# Altium footprint library MLACHP_P.PCBLIB: 129 footprints (part 4 of 9)
Each footprint in its own frame and in the unit in brackets; x right, y up, seen from the top. Pads: shape width x height; smd on the part's side, far side on the other; paste and mask are expansions set on the pad; w line width, h text height; cw(c..) or ccw(c..) is an arc to the next point about the centre after c.
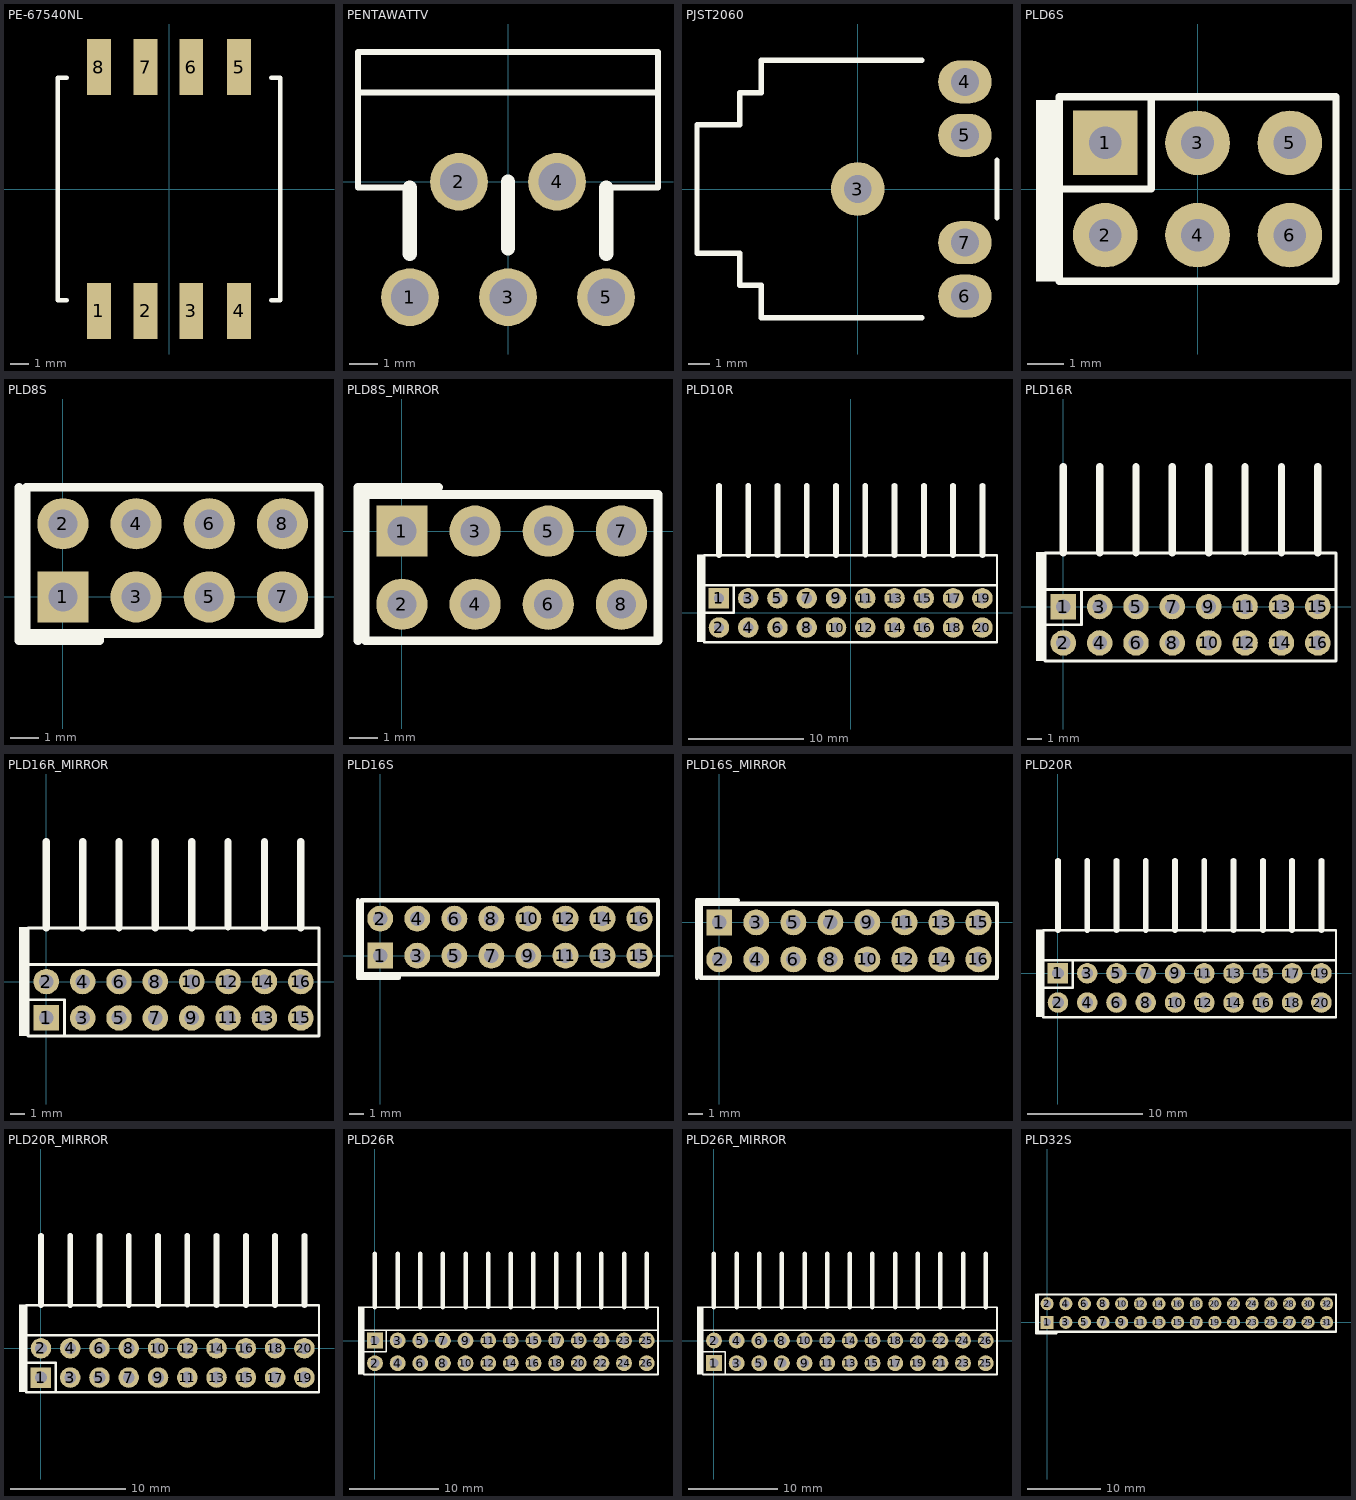
[diagram p3: the footprints below, top view; thin cyan lines are the x and y axes]

## PE-67540NL [mm]
pads (8):
  rect 1.3x3.05 smd: 1(-3.81,-6.625) 2(-1.27,-6.625) 3(1.21,-6.625) 4(3.81,-6.625) 5(3.81,6.625) 6(1.21,6.625) 7(-1.27,6.625) 8(-3.81,6.625)
TopOverlay:
  lines w0.254: -5.55,-6.05 -6.05,-6.05 -6.05,6.05 -5.55,6.05 ; 5.55,-6.05 6.05,-6.05 6.05,6.05 5.55,6.05
3D body: height 1, standoff 0, extent -4.21,6.025 -3.41,7.525
3D body: height 1, standoff 0, extent -1.67,6.025 -0.87,7.525
3D body: height 1, standoff 0, extent 0.81,6.025 1.61,7.525
3D body: height 1, standoff 0, extent 3.41,6.025 4.21,7.525
3D body: height 1, standoff 0, extent 3.41,-7.525 4.21,-6.025
3D body: height 1, standoff 0, extent 0.81,-7.525 1.61,-6.025
3D body: height 1, standoff 0, extent -1.67,-7.525 -0.87,-6.025
3D body: height 1, standoff 0, extent -4.21,-7.525 -3.41,-6.025
3D body: height 8.64, standoff 0, extent -6.05,-6.05 6.05,6.05

## PENTAWATTV [mm]
pads (5):
  round 2 hole 1.3: 1(-3.4,-4) 2(-1.7,0) 3(0,-4) 4(1.7,0) 5(3.4,-4)
TopOverlay:
  lines w0.2: -5.2,3.1 5.2,3.1 ; -3.4,-0.2 -5.2,-0.2 -5.2,4.5 5.2,4.5 5.2,-0.2 3.4,-0.2
  lines w0.5: -3.4,-2.5 -3.4,-0.2 ; 0,-2.3 0,0 ; 3.4,-2.5 3.4,-0.2
3D body: height 7, standoff 4, extent -3.9,0.1 -2.904,1.098
3D body: height 2.5, standoff 0, extent -3.9,-4.5 -2.904,-3.502
3D body: height 14.35, standoff 5.2, extent -5.2,-0.3 5.2,4.5
3D body: height 20.65, standoff 14.35, extent -5.2,3.1 5.2,4.5
3D body: height 4.47, standoff 1.65, extent -3.896,-4.45 -2.9,1.06
3D body: height 2.5, standoff 0, extent -2.198,-0.5 -1.202,0.498
3D body: height 7, standoff 4, extent -2.2,0.1 -1.204,1.098
3D body: height 4.17, standoff 1.95, extent -2.2,-0.511 -1.204,1.111
3D body: height 4.47, standoff 1.65, extent -0.496,-4.45 0.5,1.06
3D body: height 2.5, standoff 0, extent -0.5,-4.5 0.496,-3.502
3D body: height 7, standoff 4, extent -0.5,0.1 0.496,1.098
3D body: height 4.47, standoff 1.65, extent 2.904,-4.45 3.9,1.06
3D body: height 2.5, standoff 0, extent 2.9,-4.5 3.896,-3.502
3D body: height 7, standoff 4, extent 2.9,0.1 3.896,1.098
3D body: height 4.17, standoff 1.95, extent 1.2,-0.511 2.196,1.111
3D body: height 7, standoff 4, extent 1.2,0.1 2.196,1.098
3D body: height 2.5, standoff 0, extent 1.202,-0.5 2.198,0.498

## PJST2060 [mm]
pads (5):
  round 2.5 hole 1.3: 3(0,0)
  oval 2.5x2 hole 1.3: 4(5,5) 5(5,2.5) 6(5,-5) 7(5,-2.5)
TopOverlay:
  lines w0.254: 3,-6 -4.5,-6 -4.5,-4.5 -5.5,-4.5 -5.5,-3 -7.5,-3 -7.5,3 -5.5,3 -5.5,4.5 -4.5,4.5 -4.5,6 3,6 ; 6.5,-1.35 6.5,1.35
3D body: height 6.5, standoff -2, extent -7.5,-6 6.5,6

## PLD6S [mil]
pads (6):
  rect 70x70 hole 35.43: 1(-100,50)
  round 70 hole 35.43: 2(-100,-50) 3(0,50) 4(0,-50) 5(100,50) 6(100,-50)
TopOverlay:
  rectangle: -175,-100 -150,96.46
  lines w8: -150,0 -50,0 -50,95 ; -150,-100 150,-100 150,100 -150,100 -150,-100
3D body: height 100, standoff 0, extent -150,-100 150,100
3D body: height 336.22, standoff 0, extent 87.4,37.4 112.6,62.6
3D body: height 336.22, standoff 0, extent -12.6,37.4 12.6,62.6
3D body: height 336.22, standoff 0, extent -112.6,37.4 -87.4,62.6
3D body: height 336.22, standoff 0, extent -112.6,-62.6 -87.4,-37.4
3D body: height 336.22, standoff 0, extent -12.6,-62.6 12.6,-37.4
3D body: height 336.22, standoff 0, extent 87.4,-62.6 112.6,-37.4

## PLD8S [mil]
pads (8):
  rect 70x70 hole 39.37: 1(0,0)
  round 70 hole 39.37: 2(0,100) 3(100,0) 4(100,100) 5(200,0) 6(200,100) 7(300,0) 8(300,100)
TopOverlay:
  lines w12: -60,150 -60,-60 50,-60 50,-50 ; -50,-50 350,-50 350,150 -50,150 -50,-50
3D body: height 455, standoff -120, extent -14,86 14,114
3D body: height 455, standoff -120, extent 86,86 114,114
3D body: height 455, standoff -120, extent 186,86 214,114
3D body: height 455, standoff -120, extent 286,86 314,114
3D body: height 455, standoff -120, extent 286,-14 314,14
3D body: height 455, standoff -120, extent 186,-14 214,14
3D body: height 455, standoff -120, extent 86,-14 114,14
3D body: height 455, standoff -120, extent -14,-14 14,14
3D body: height 100, standoff 0, extent -50,-50 350,150

## PLD8S_MIRROR [mil]
pads (8):
  rect 70x70 hole 39.37: 1(0,0)
  round 70 hole 39.37: 2(0,-100) 3(100,0) 4(100,-100) 5(200,0) 6(200,-100) 7(300,0) 8(300,-100)
TopOverlay:
  lines w12: -60,-150 -60,60 50,60 ; -50,-150 -50,50 350,50 350,-150 -50,-150
3D body: height 100, standoff 0, extent -50,-150 350,50
3D body: height 455, standoff -120, extent -14,-114 14,-86
3D body: height 455, standoff -120, extent 86,-114 114,-86
3D body: height 455, standoff -120, extent 186,-114 214,-86
3D body: height 455, standoff -120, extent 286,-114 314,-86
3D body: height 455, standoff -120, extent 286,-14 314,14
3D body: height 455, standoff -120, extent 186,-14 214,14
3D body: height 455, standoff -120, extent 86,-14 114,14
3D body: height 455, standoff -120, extent -14,-14 14,14

## PLD10R [mil]
pads (20):
  rect 70x70 hole 35.43: 1(-450,50)
  round 70 hole 35.43: 2(-450,-50) 3(-350,50) 4(-350,-50) 5(-250,50) 6(-250,-50) 7(-150,50) 8(-150,-50) 9(-50,50) 10(-50,-50) 11(50,50) 12(50,-50) 13(150,50) 14(150,-50) 15(250,50) 16(250,-50) 17(350,50) 18(350,-50) 19(450,50) 20(450,-50)
TopOverlay:
  rectangle: -525,-100 -500,200
  lines w8: -501.18,197.24 500,197.24 500,97.24 500,-100 -500,-100 -500,100 ; -500,0 -400,0 -400,95 ; -500,197.24 -500,95 500,95
  lines w20: -450,197.24 -450,434.25 ; -350,197.24 -350,434.25 ; -250,197.24 -250,434.25 ; -150,197.24 -150,434.25 ; -50,197.24 -50,434.25 ; 50,200 50,434.25 ; 150,197.24 150,434.25 ; 250,197.24 250,434.25 ; 350,197.24 350,434.25 ; 450,197.24 450,434.25
3D body: height 62.6, standoff 37.4, extent 437.4,37.4 462.6,434.25
3D body: height 62.6, standoff -118.11, extent 437.4,37.4 462.6,62.6
3D body: height 62.6, standoff 37.4, extent 337.4,37.4 362.6,434.25
3D body: height 62.6, standoff -118.11, extent 337.4,37.4 362.6,62.6
3D body: height 62.6, standoff 37.4, extent 237.4,37.4 262.6,434.25
3D body: height 62.6, standoff -118.11, extent 237.4,37.4 262.6,62.6
3D body: height 62.6, standoff 37.4, extent 137.4,37.4 162.6,434.25
3D body: height 62.6, standoff -118.11, extent 137.4,37.4 162.6,62.6
3D body: height 62.6, standoff 37.4, extent 37.4,37.4 62.6,434.25
3D body: height 62.6, standoff -118.11, extent 37.4,37.4 62.6,62.6
3D body: height 62.6, standoff 37.4, extent -62.6,37.4 -37.4,434.25
3D body: height 62.6, standoff -118.11, extent -62.6,37.4 -37.4,62.6
3D body: height 62.6, standoff 37.4, extent -162.6,37.4 -137.4,434.25
3D body: height 62.6, standoff -118.11, extent -162.6,37.4 -137.4,62.6
3D body: height 62.6, standoff 37.4, extent -262.6,37.4 -237.4,434.25
3D body: height 62.6, standoff -118.11, extent -262.6,37.4 -237.4,62.6
3D body: height 62.6, standoff 37.4, extent -362.6,37.4 -337.4,434.25
3D body: height 62.6, standoff -118.11, extent -362.6,37.4 -337.4,62.6
3D body: height 62.6, standoff -118.11, extent -462.6,37.4 -437.4,62.6
3D body: height 200, standoff 0, extent -500,97.24 500,197.24
3D body: height 62.6, standoff 37.4, extent -462.6,37.4 -437.4,434.25
3D body: height 162.6, standoff -118.11, extent -462.6,-62.6 -437.4,-37.4
3D body: height 162.6, standoff 137.4, extent -462.6,-62.6 -437.4,434.25
3D body: height 162.6, standoff 137.4, extent -362.6,-62.6 -337.4,434.25
3D body: height 162.6, standoff -118.11, extent -362.6,-62.6 -337.4,-37.4
3D body: height 162.6, standoff 137.4, extent -262.6,-62.6 -237.4,434.25
3D body: height 162.6, standoff -118.11, extent -262.6,-62.6 -237.4,-37.4
3D body: height 162.6, standoff 137.4, extent -162.6,-62.6 -137.4,434.25
3D body: height 162.6, standoff -118.11, extent -162.6,-62.6 -137.4,-37.4
3D body: height 162.6, standoff 137.4, extent -62.6,-62.6 -37.4,434.25
3D body: height 162.6, standoff -118.11, extent -62.6,-62.6 -37.4,-37.4
3D body: height 162.6, standoff 137.4, extent -62.6,-62.6 -37.4,434.25
3D body: height 162.6, standoff -118.11, extent -62.6,-62.6 -37.4,-37.4
3D body: height 162.6, standoff 137.4, extent 37.4,-62.6 62.6,434.25
3D body: height 162.6, standoff -118.11, extent 37.4,-62.6 62.6,-37.4
3D body: height 162.6, standoff 137.4, extent 137.4,-62.6 162.6,434.25
3D body: height 162.6, standoff -118.11, extent 137.4,-62.6 162.6,-37.4
3D body: height 162.6, standoff 137.4, extent 237.4,-62.6 262.6,434.25
3D body: height 162.6, standoff -118.11, extent 237.4,-62.6 262.6,-37.4
3D body: height 162.6, standoff 137.4, extent 437.4,-62.6 462.6,434.25
3D body: height 162.6, standoff -118.11, extent 437.4,-62.6 462.6,-37.4
3D body: height 162.6, standoff 137.4, extent 337.4,-62.6 362.6,434.25
3D body: height 162.6, standoff -118.11, extent 337.4,-62.6 362.6,-37.4

## PLD16R [mil]
pads (16):
  rect 70x70 hole 40: 1(0,0)
  round 70 hole 40: 2(0,-100) 3(100,0) 4(100,-100) 5(200,0) 6(200,-100) 7(300,0) 8(300,-100) 9(400,0) 10(400,-100) 11(500,0) 12(500,-100) 13(600,0) 14(600,-100) 15(700,0) 16(700,-100)
TopOverlay:
  rectangle: -75,-150 -50,150
  lines w8: -50,-50 50,-50 50,47.24 ; -50,50 -50,-150 750,-150 750,147.24 -50,147.24 -50,47.24 750,47.24
  lines w20: 0,147.24 0,384.25 ; 100,147.24 100,384.25 ; 200,147.24 200,384.25 ; 300,147.24 300,384.25 ; 400,147.24 400,384.25 ; 500,150 500,384.25 ; 600,147.24 600,384.25 ; 700,147.24 700,384.25
3D body: height 162.6, standoff -118.11, extent 687.4,-112.6 712.6,-87.4
3D body: height 162.6, standoff 137.4, extent 687.4,-112.6 712.6,384.25
3D body: height 162.6, standoff -118.11, extent 587.4,-112.6 612.6,-87.4
3D body: height 162.6, standoff 137.4, extent 587.4,-112.6 612.6,384.25
3D body: height 162.6, standoff -118.11, extent 487.4,-112.6 512.6,-87.4
3D body: height 162.6, standoff 137.4, extent 487.4,-112.6 512.6,384.25
3D body: height 162.6, standoff -118.11, extent 387.4,-112.6 412.6,-87.4
3D body: height 162.6, standoff 137.4, extent 387.4,-112.6 412.6,384.25
3D body: height 162.6, standoff -118.11, extent 387.4,-112.6 412.6,-87.4
3D body: height 162.6, standoff 137.4, extent 387.4,-112.6 412.6,384.25
3D body: height 162.6, standoff -118.11, extent 287.4,-112.6 312.6,-87.4
3D body: height 162.6, standoff 137.4, extent 287.4,-112.6 312.6,384.25
3D body: height 162.6, standoff -118.11, extent 187.4,-112.6 212.6,-87.4
3D body: height 162.6, standoff 137.4, extent 187.4,-112.6 212.6,384.25
3D body: height 162.6, standoff -118.11, extent 87.4,-112.6 112.6,-87.4
3D body: height 162.6, standoff 137.4, extent 87.4,-112.6 112.6,384.25
3D body: height 162.6, standoff 137.4, extent -12.6,-112.6 12.6,384.25
3D body: height 162.6, standoff -118.11, extent -12.6,-112.6 12.6,-87.4
3D body: height 62.6, standoff 37.4, extent -12.6,-12.6 12.6,384.25
3D body: height 200, standoff 0, extent -50,47.24 750,147.24
3D body: height 62.6, standoff -118.11, extent -12.6,-12.6 12.6,12.6
3D body: height 62.6, standoff -118.11, extent 87.4,-12.6 112.6,12.6
3D body: height 62.6, standoff 37.4, extent 87.4,-12.6 112.6,384.25
3D body: height 62.6, standoff -118.11, extent 187.4,-12.6 212.6,12.6
3D body: height 62.6, standoff 37.4, extent 187.4,-12.6 212.6,384.25
3D body: height 62.6, standoff -118.11, extent 287.4,-12.6 312.6,12.6
3D body: height 62.6, standoff 37.4, extent 287.4,-12.6 312.6,384.25
3D body: height 62.6, standoff -118.11, extent 387.4,-12.6 412.6,12.6
3D body: height 62.6, standoff 37.4, extent 387.4,-12.6 412.6,384.25
3D body: height 62.6, standoff -118.11, extent 487.4,-12.6 512.6,12.6
3D body: height 62.6, standoff 37.4, extent 487.4,-12.6 512.6,384.25
3D body: height 62.6, standoff -118.11, extent 587.4,-12.6 612.6,12.6
3D body: height 62.6, standoff 37.4, extent 587.4,-12.6 612.6,384.25
3D body: height 62.6, standoff -118.11, extent 687.4,-12.6 712.6,12.6
3D body: height 62.6, standoff 37.4, extent 687.4,-12.6 712.6,384.25

## PLD16R_MIRROR [mil]
pads (16):
  rect 70x70 hole 40: 1(0,-100)
  round 70 hole 40: 2(0,0) 3(100,-100) 4(100,0) 5(200,-100) 6(200,0) 7(300,-100) 8(300,0) 9(400,-100) 10(400,0) 11(500,-100) 12(500,0) 13(600,-100) 14(600,0) 15(700,-100) 16(700,0)
TopOverlay:
  rectangle: -75,-150 -50,150
  lines w8: -50,-50 50,-50 50,-150 ; -50,50 -50,-150 750,-150 750,147.24 -50,147.24 -50,47.24 750,47.24
  lines w20: 0,147.24 0,384.25 ; 100,147.24 100,384.25 ; 200,147.24 200,384.25 ; 300,147.24 300,384.25 ; 400,147.24 400,384.25 ; 500,150 500,384.25 ; 600,147.24 600,384.25 ; 700,147.24 700,384.25
3D body: height 162.6, standoff -118.11, extent 687.4,-112.6 712.6,-87.4
3D body: height 162.6, standoff 137.4, extent 687.4,-112.6 712.6,384.25
3D body: height 162.6, standoff -118.11, extent 587.4,-112.6 612.6,-87.4
3D body: height 162.6, standoff 137.4, extent 587.4,-112.6 612.6,384.25
3D body: height 162.6, standoff -118.11, extent 487.4,-112.6 512.6,-87.4
3D body: height 162.6, standoff 137.4, extent 487.4,-112.6 512.6,384.25
3D body: height 162.6, standoff -118.11, extent 387.4,-112.6 412.6,-87.4
3D body: height 162.6, standoff 137.4, extent 387.4,-112.6 412.6,384.25
3D body: height 162.6, standoff -118.11, extent 387.4,-112.6 412.6,-87.4
3D body: height 162.6, standoff 137.4, extent 387.4,-112.6 412.6,384.25
3D body: height 162.6, standoff -118.11, extent 287.4,-112.6 312.6,-87.4
3D body: height 162.6, standoff 137.4, extent 287.4,-112.6 312.6,384.25
3D body: height 162.6, standoff -118.11, extent 187.4,-112.6 212.6,-87.4
3D body: height 162.6, standoff 137.4, extent 187.4,-112.6 212.6,384.25
3D body: height 162.6, standoff -118.11, extent 87.4,-112.6 112.6,-87.4
3D body: height 162.6, standoff 137.4, extent 87.4,-112.6 112.6,384.25
3D body: height 162.6, standoff 137.4, extent -12.6,-112.6 12.6,384.25
3D body: height 162.6, standoff -118.11, extent -12.6,-112.6 12.6,-87.4
3D body: height 62.6, standoff 37.4, extent -12.6,-12.6 12.6,384.25
3D body: height 200, standoff 0, extent -50,47.24 750,147.24
3D body: height 62.6, standoff -118.11, extent -12.6,-12.6 12.6,12.6
3D body: height 62.6, standoff -118.11, extent 87.4,-12.6 112.6,12.6
3D body: height 62.6, standoff 37.4, extent 87.4,-12.6 112.6,384.25
3D body: height 62.6, standoff -118.11, extent 187.4,-12.6 212.6,12.6
3D body: height 62.6, standoff 37.4, extent 187.4,-12.6 212.6,384.25
3D body: height 62.6, standoff -118.11, extent 287.4,-12.6 312.6,12.6
3D body: height 62.6, standoff 37.4, extent 287.4,-12.6 312.6,384.25
3D body: height 62.6, standoff -118.11, extent 387.4,-12.6 412.6,12.6
3D body: height 62.6, standoff 37.4, extent 387.4,-12.6 412.6,384.25
3D body: height 62.6, standoff -118.11, extent 487.4,-12.6 512.6,12.6
3D body: height 62.6, standoff 37.4, extent 487.4,-12.6 512.6,384.25
3D body: height 62.6, standoff -118.11, extent 587.4,-12.6 612.6,12.6
3D body: height 62.6, standoff 37.4, extent 587.4,-12.6 612.6,384.25
3D body: height 62.6, standoff -118.11, extent 687.4,-12.6 712.6,12.6
3D body: height 62.6, standoff 37.4, extent 687.4,-12.6 712.6,384.25

## PLD16S [mil]
pads (16):
  rect 70x70 hole 39.37: 1(0,0)
  round 70 hole 39.37: 2(0,100) 3(100,0) 4(100,100) 5(200,0) 6(200,100) 7(300,0) 8(300,100) 9(400,0) 10(400,100) 11(500,0) 12(500,100) 13(600,0) 14(600,100) 15(700,0) 16(700,100)
TopOverlay:
  lines w12: -60,150 -60,-60 50,-60 50,-50 ; -50,-50 750,-50 750,150 -50,150 -50,-50
3D body: height 455, standoff -120, extent -14,86 14,114
3D body: height 455, standoff -120, extent 86,86 114,114
3D body: height 455, standoff -120, extent 186,86 214,114
3D body: height 455, standoff -120, extent 286,86 314,114
3D body: height 455, standoff -120, extent 386,86 414,114
3D body: height 455, standoff -120, extent 486,86 514,114
3D body: height 455, standoff -120, extent 586,86 614,114
3D body: height 455, standoff -120, extent 686,86 714,114
3D body: height 455, standoff -120, extent 686,-14 714,14
3D body: height 455, standoff -120, extent 586,-14 614,14
3D body: height 455, standoff -120, extent 486,-14 514,14
3D body: height 455, standoff -120, extent 386,-14 414,14
3D body: height 455, standoff -120, extent 286,-14 314,14
3D body: height 455, standoff -120, extent 186,-14 214,14
3D body: height 455, standoff -120, extent 86,-14 114,14
3D body: height 455, standoff -120, extent -14,-14 14,14
3D body: height 100, standoff 0, extent -50,-50 750,150

## PLD16S_MIRROR [mil]
pads (16):
  rect 70x70 hole 39.37: 1(0,0)
  round 70 hole 39.37: 2(0,-100) 3(100,0) 4(100,-100) 5(200,0) 6(200,-100) 7(300,0) 8(300,-100) 9(400,0) 10(400,-100) 11(500,0) 12(500,-100) 13(600,0) 14(600,-100) 15(700,0) 16(700,-100)
TopOverlay:
  lines w12: -60,-150 -60,60 50,60 ; -50,-150 -50,50 750,50 750,-150 -50,-150
3D body: height 100, standoff 0, extent -50,-150 750,50
3D body: height 455, standoff -120, extent -14,-114 14,-86
3D body: height 455, standoff -120, extent 86,-114 114,-86
3D body: height 455, standoff -120, extent 186,-114 214,-86
3D body: height 455, standoff -120, extent 286,-114 314,-86
3D body: height 455, standoff -120, extent 386,-114 414,-86
3D body: height 455, standoff -120, extent 486,-114 514,-86
3D body: height 455, standoff -120, extent 586,-114 614,-86
3D body: height 455, standoff -120, extent 686,-114 714,-86
3D body: height 455, standoff -120, extent 686,-14 714,14
3D body: height 455, standoff -120, extent 586,-14 614,14
3D body: height 455, standoff -120, extent 486,-14 514,14
3D body: height 455, standoff -120, extent 386,-14 414,14
3D body: height 455, standoff -120, extent 286,-14 314,14
3D body: height 455, standoff -120, extent 186,-14 214,14
3D body: height 455, standoff -120, extent 86,-14 114,14
3D body: height 455, standoff -120, extent -14,-14 14,14

## PLD20R [mil]
pads (20):
  rect 70x70 hole 40: 1(0,0)
  round 70 hole 40: 2(0,-100) 3(100,0) 4(100,-100) 5(200,0) 6(200,-100) 7(300,0) 8(300,-100) 9(400,0) 10(400,-100) 11(500,0) 12(500,-100) 13(600,0) 14(600,-100) 15(700,0) 16(700,-100) 17(800,0) 18(800,-100) 19(900,0) 20(900,-100)
TopOverlay:
  rectangle: -75,-150 -50,150
  lines w8: -51.18,147.24 950,147.24 950,47.24 950,-150 -50,-150 -50,50 ; -50,-50 50,-50 50,45 ; -50,147.24 -50,45 950,45
  lines w20: 0,147.24 0,384.25 ; 100,147.24 100,384.25 ; 200,147.24 200,384.25 ; 300,147.24 300,384.25 ; 400,147.24 400,384.25 ; 500,150 500,384.25 ; 600,147.24 600,384.25 ; 700,147.24 700,384.25 ; 800,147.24 800,384.25 ; 900,147.24 900,384.25
3D body: height 162.6, standoff -118.11, extent 787.4,-112.6 812.6,-87.4
3D body: height 162.6, standoff 137.4, extent 787.4,-112.6 812.6,384.25
3D body: height 162.6, standoff -118.11, extent 887.4,-112.6 912.6,-87.4
3D body: height 162.6, standoff 137.4, extent 887.4,-112.6 912.6,384.25
3D body: height 162.6, standoff -118.11, extent 687.4,-112.6 712.6,-87.4
3D body: height 162.6, standoff 137.4, extent 687.4,-112.6 712.6,384.25
3D body: height 162.6, standoff -118.11, extent 587.4,-112.6 612.6,-87.4
3D body: height 162.6, standoff 137.4, extent 587.4,-112.6 612.6,384.25
3D body: height 162.6, standoff -118.11, extent 487.4,-112.6 512.6,-87.4
3D body: height 162.6, standoff 137.4, extent 487.4,-112.6 512.6,384.25
3D body: height 162.6, standoff -118.11, extent 387.4,-112.6 412.6,-87.4
3D body: height 162.6, standoff 137.4, extent 387.4,-112.6 412.6,384.25
3D body: height 162.6, standoff -118.11, extent 387.4,-112.6 412.6,-87.4
3D body: height 162.6, standoff 137.4, extent 387.4,-112.6 412.6,384.25
3D body: height 162.6, standoff -118.11, extent 287.4,-112.6 312.6,-87.4
3D body: height 162.6, standoff 137.4, extent 287.4,-112.6 312.6,384.25
3D body: height 162.6, standoff -118.11, extent 187.4,-112.6 212.6,-87.4
3D body: height 162.6, standoff 137.4, extent 187.4,-112.6 212.6,384.25
3D body: height 162.6, standoff -118.11, extent 87.4,-112.6 112.6,-87.4
3D body: height 162.6, standoff 137.4, extent 87.4,-112.6 112.6,384.25
3D body: height 162.6, standoff 137.4, extent -12.6,-112.6 12.6,384.25
3D body: height 162.6, standoff -118.11, extent -12.6,-112.6 12.6,-87.4
3D body: height 62.6, standoff 37.4, extent -12.6,-12.6 12.6,384.25
3D body: height 200, standoff 0, extent -50,47.24 950,147.24
3D body: height 62.6, standoff -118.11, extent -12.6,-12.6 12.6,12.6
3D body: height 62.6, standoff -118.11, extent 87.4,-12.6 112.6,12.6
3D body: height 62.6, standoff 37.4, extent 87.4,-12.6 112.6,384.25
3D body: height 62.6, standoff -118.11, extent 187.4,-12.6 212.6,12.6
3D body: height 62.6, standoff 37.4, extent 187.4,-12.6 212.6,384.25
3D body: height 62.6, standoff -118.11, extent 287.4,-12.6 312.6,12.6
3D body: height 62.6, standoff 37.4, extent 287.4,-12.6 312.6,384.25
3D body: height 62.6, standoff -118.11, extent 387.4,-12.6 412.6,12.6
3D body: height 62.6, standoff 37.4, extent 387.4,-12.6 412.6,384.25
3D body: height 62.6, standoff -118.11, extent 487.4,-12.6 512.6,12.6
3D body: height 62.6, standoff 37.4, extent 487.4,-12.6 512.6,384.25
3D body: height 62.6, standoff -118.11, extent 587.4,-12.6 612.6,12.6
3D body: height 62.6, standoff 37.4, extent 587.4,-12.6 612.6,384.25
3D body: height 62.6, standoff -118.11, extent 687.4,-12.6 712.6,12.6
3D body: height 62.6, standoff 37.4, extent 687.4,-12.6 712.6,384.25
3D body: height 62.6, standoff -118.11, extent 787.4,-12.6 812.6,12.6
3D body: height 62.6, standoff 37.4, extent 787.4,-12.6 812.6,384.25
3D body: height 62.6, standoff -118.11, extent 887.4,-12.6 912.6,12.6
3D body: height 62.6, standoff 37.4, extent 887.4,-12.6 912.6,384.25

## PLD20R_MIRROR [mil]
pads (20):
  rect 70x70 hole 40: 1(0,-100)
  round 70 hole 40: 2(0,0) 3(100,-100) 4(100,0) 5(200,-100) 6(200,0) 7(300,-100) 8(300,0) 9(400,-100) 10(400,0) 11(500,-100) 12(500,0) 13(600,-100) 14(600,0) 15(700,-100) 16(700,0) 17(800,-100) 18(800,0) 19(900,-100) 20(900,0)
TopOverlay:
  rectangle: -75,-150 -50,150
  lines w8: -51.18,147.24 950,147.24 950,47.24 950,-150 -50,-150 -50,50 ; -50,-50 50,-50 50,-150 ; -50,147.24 -50,45 950,45
  lines w20: 0,147.24 0,384.25 ; 100,147.24 100,384.25 ; 200,147.24 200,384.25 ; 300,147.24 300,384.25 ; 400,147.24 400,384.25 ; 500,150 500,384.25 ; 600,147.24 600,384.25 ; 700,147.24 700,384.25 ; 800,147.24 800,384.25 ; 900,147.24 900,384.25
3D body: height 62.6, standoff 37.4, extent 887.4,-12.6 912.6,384.25
3D body: height 62.6, standoff -118.11, extent 887.4,-12.6 912.6,12.6
3D body: height 62.6, standoff 37.4, extent 787.4,-12.6 812.6,384.25
3D body: height 62.6, standoff -118.11, extent 787.4,-12.6 812.6,12.6
3D body: height 62.6, standoff 37.4, extent 687.4,-12.6 712.6,384.25
3D body: height 62.6, standoff -118.11, extent 687.4,-12.6 712.6,12.6
3D body: height 62.6, standoff 37.4, extent 587.4,-12.6 612.6,384.25
3D body: height 62.6, standoff -118.11, extent 587.4,-12.6 612.6,12.6
3D body: height 62.6, standoff 37.4, extent 487.4,-12.6 512.6,384.25
3D body: height 62.6, standoff -118.11, extent 487.4,-12.6 512.6,12.6
3D body: height 62.6, standoff 37.4, extent 387.4,-12.6 412.6,384.25
3D body: height 62.6, standoff -118.11, extent 387.4,-12.6 412.6,12.6
3D body: height 62.6, standoff 37.4, extent 287.4,-12.6 312.6,384.25
3D body: height 62.6, standoff -118.11, extent 287.4,-12.6 312.6,12.6
3D body: height 62.6, standoff 37.4, extent 187.4,-12.6 212.6,384.25
3D body: height 62.6, standoff -118.11, extent 187.4,-12.6 212.6,12.6
3D body: height 62.6, standoff 37.4, extent 87.4,-12.6 112.6,384.25
3D body: height 62.6, standoff -118.11, extent 87.4,-12.6 112.6,12.6
3D body: height 62.6, standoff -118.11, extent -12.6,-12.6 12.6,12.6
3D body: height 200, standoff 0, extent -50,47.24 950,147.24
3D body: height 62.6, standoff 37.4, extent -12.6,-12.6 12.6,384.25
3D body: height 162.6, standoff -118.11, extent -12.6,-112.6 12.6,-87.4
3D body: height 162.6, standoff 137.4, extent -12.6,-112.6 12.6,384.25
3D body: height 162.6, standoff 137.4, extent 87.4,-112.6 112.6,384.25
3D body: height 162.6, standoff -118.11, extent 87.4,-112.6 112.6,-87.4
3D body: height 162.6, standoff 137.4, extent 187.4,-112.6 212.6,384.25
3D body: height 162.6, standoff -118.11, extent 187.4,-112.6 212.6,-87.4
3D body: height 162.6, standoff 137.4, extent 287.4,-112.6 312.6,384.25
3D body: height 162.6, standoff -118.11, extent 287.4,-112.6 312.6,-87.4
3D body: height 162.6, standoff 137.4, extent 387.4,-112.6 412.6,384.25
3D body: height 162.6, standoff -118.11, extent 387.4,-112.6 412.6,-87.4
3D body: height 162.6, standoff 137.4, extent 387.4,-112.6 412.6,384.25
3D body: height 162.6, standoff -118.11, extent 387.4,-112.6 412.6,-87.4
3D body: height 162.6, standoff 137.4, extent 487.4,-112.6 512.6,384.25
3D body: height 162.6, standoff -118.11, extent 487.4,-112.6 512.6,-87.4
3D body: height 162.6, standoff 137.4, extent 587.4,-112.6 612.6,384.25
3D body: height 162.6, standoff -118.11, extent 587.4,-112.6 612.6,-87.4
3D body: height 162.6, standoff 137.4, extent 687.4,-112.6 712.6,384.25
3D body: height 162.6, standoff -118.11, extent 687.4,-112.6 712.6,-87.4
3D body: height 162.6, standoff 137.4, extent 887.4,-112.6 912.6,384.25
3D body: height 162.6, standoff -118.11, extent 887.4,-112.6 912.6,-87.4
3D body: height 162.6, standoff 137.4, extent 787.4,-112.6 812.6,384.25
3D body: height 162.6, standoff -118.11, extent 787.4,-112.6 812.6,-87.4

## PLD26R [mil]
pads (26):
  rect 70x70 hole 40: 1(0,0)
  round 70 hole 40: 2(0,-100) 3(100,0) 4(100,-100) 5(200,0) 6(200,-100) 7(300,0) 8(300,-100) 9(400,0) 10(400,-100) 11(500,0) 12(500,-100) 13(600,0) 14(600,-100) 15(700,0) 16(700,-100) 17(800,0) 18(800,-100) 19(900,0) 20(900,-100) 21(1000,0) 22(1000,-100) 23(1100,0) 24(1100,-100) 25(1200,0) 26(1200,-100)
TopOverlay:
  rectangle: -75,-150 -50,150
  lines w8: -51.18,147.24 1250,147.24 1250,47.24 1250,-150 -50,-150 -50,50 ; -50,-50 50,-50 50,45 ; -50,147.24 -50,45 1250,45
  lines w20: 0,147.24 0,384.25 ; 100,147.24 100,384.25 ; 200,147.24 200,384.25 ; 300,147.24 300,384.25 ; 400,147.24 400,384.25 ; 500,150 500,384.25 ; 600,147.24 600,384.25 ; 700,147.24 700,384.25 ; 800,147.24 800,384.25 ; 900,147.24 900,384.25 ; 1000,147.24 1000,384.25 ; 1100,147.24 1100,384.25 ; 1200,147.24 1200,384.25
3D body: height 62.6, standoff 37.4, extent 1187.4,-12.6 1212.6,384.25
3D body: height 62.6, standoff -118.11, extent 1187.4,-12.6 1212.6,12.6
3D body: height 62.6, standoff 37.4, extent 1087.4,-12.6 1112.6,384.25
3D body: height 62.6, standoff -118.11, extent 1087.4,-12.6 1112.6,12.6
3D body: height 62.6, standoff 37.4, extent 987.4,-12.6 1012.6,384.25
3D body: height 62.6, standoff -118.11, extent 987.4,-12.6 1012.6,12.6
3D body: height 62.6, standoff 37.4, extent 887.4,-12.6 912.6,384.25
3D body: height 62.6, standoff -118.11, extent 887.4,-12.6 912.6,12.6
3D body: height 62.6, standoff 37.4, extent 787.4,-12.6 812.6,384.25
3D body: height 62.6, standoff -118.11, extent 787.4,-12.6 812.6,12.6
3D body: height 62.6, standoff 37.4, extent 687.4,-12.6 712.6,384.25
3D body: height 62.6, standoff -118.11, extent 687.4,-12.6 712.6,12.6
3D body: height 62.6, standoff 37.4, extent 587.4,-12.6 612.6,384.25
3D body: height 62.6, standoff -118.11, extent 587.4,-12.6 612.6,12.6
3D body: height 62.6, standoff 37.4, extent 487.4,-12.6 512.6,384.25
3D body: height 62.6, standoff -118.11, extent 487.4,-12.6 512.6,12.6
3D body: height 62.6, standoff 37.4, extent 387.4,-12.6 412.6,384.25
3D body: height 62.6, standoff -118.11, extent 387.4,-12.6 412.6,12.6
3D body: height 62.6, standoff 37.4, extent 287.4,-12.6 312.6,384.25
3D body: height 62.6, standoff -118.11, extent 287.4,-12.6 312.6,12.6
3D body: height 62.6, standoff 37.4, extent 187.4,-12.6 212.6,384.25
3D body: height 62.6, standoff -118.11, extent 187.4,-12.6 212.6,12.6
3D body: height 62.6, standoff 37.4, extent 87.4,-12.6 112.6,384.25
3D body: height 62.6, standoff -118.11, extent 87.4,-12.6 112.6,12.6
3D body: height 62.6, standoff -118.11, extent -12.6,-12.6 12.6,12.6
3D body: height 200, standoff 0, extent -50,47.24 1250,147.24
3D body: height 62.6, standoff 37.4, extent -12.6,-12.6 12.6,384.25
3D body: height 162.6, standoff -118.11, extent -12.6,-112.6 12.6,-87.4
3D body: height 162.6, standoff 137.4, extent -12.6,-112.6 12.6,384.25
3D body: height 162.6, standoff 137.4, extent 87.4,-112.6 112.6,384.25
3D body: height 162.6, standoff -118.11, extent 87.4,-112.6 112.6,-87.4
3D body: height 162.6, standoff 137.4, extent 187.4,-112.6 212.6,384.25
3D body: height 162.6, standoff -118.11, extent 187.4,-112.6 212.6,-87.4
3D body: height 162.6, standoff 137.4, extent 287.4,-112.6 312.6,384.25
3D body: height 162.6, standoff -118.11, extent 287.4,-112.6 312.6,-87.4
3D body: height 162.6, standoff 137.4, extent 387.4,-112.6 412.6,384.25
3D body: height 162.6, standoff -118.11, extent 387.4,-112.6 412.6,-87.4
3D body: height 162.6, standoff 137.4, extent 387.4,-112.6 412.6,384.25
3D body: height 162.6, standoff -118.11, extent 387.4,-112.6 412.6,-87.4
3D body: height 162.6, standoff 137.4, extent 487.4,-112.6 512.6,384.25
3D body: height 162.6, standoff -118.11, extent 487.4,-112.6 512.6,-87.4
3D body: height 162.6, standoff 137.4, extent 587.4,-112.6 612.6,384.25
3D body: height 162.6, standoff -118.11, extent 587.4,-112.6 612.6,-87.4
3D body: height 162.6, standoff 137.4, extent 687.4,-112.6 712.6,384.25
3D body: height 162.6, standoff -118.11, extent 687.4,-112.6 712.6,-87.4
3D body: height 162.6, standoff 137.4, extent 887.4,-112.6 912.6,384.25
3D body: height 162.6, standoff -118.11, extent 887.4,-112.6 912.6,-87.4
3D body: height 162.6, standoff 137.4, extent 987.4,-112.6 1012.6,384.25
3D body: height 162.6, standoff -118.11, extent 987.4,-112.6 1012.6,-87.4
3D body: height 162.6, standoff 137.4, extent 1087.4,-112.6 1112.6,384.25
3D body: height 162.6, standoff -118.11, extent 1087.4,-112.6 1112.6,-87.4
3D body: height 162.6, standoff 137.4, extent 1187.4,-112.6 1212.6,384.25
3D body: height 162.6, standoff -118.11, extent 1187.4,-112.6 1212.6,-87.4
3D body: height 162.6, standoff 137.4, extent 787.4,-112.6 812.6,384.25
3D body: height 162.6, standoff -118.11, extent 787.4,-112.6 812.6,-87.4

## PLD26R_MIRROR [mil]
pads (26):
  rect 70x70 hole 40: 1(0,-100)
  round 70 hole 40: 2(0,0) 3(100,-100) 4(100,0) 5(200,-100) 6(200,0) 7(300,-100) 8(300,0) 9(400,-100) 10(400,0) 11(500,-100) 12(500,0) 13(600,-100) 14(600,0) 15(700,-100) 16(700,0) 17(800,-100) 18(800,0) 19(900,-100) 20(900,0) 21(1000,-100) 22(1000,0) 23(1100,-100) 24(1100,0) 25(1200,-100) 26(1200,0)
TopOverlay:
  rectangle: -75,-150 -50,150
  lines w8: -51.18,147.24 1250,147.24 1250,47.24 1250,-150 -50,-150 -50,50 ; -50,-50 50,-50 50,-150 ; -50,147.24 -50,45 1250,45
  lines w20: 0,147.24 0,384.25 ; 100,147.24 100,384.25 ; 200,147.24 200,384.25 ; 300,147.24 300,384.25 ; 400,147.24 400,384.25 ; 500,150 500,384.25 ; 600,147.24 600,384.25 ; 700,147.24 700,384.25 ; 800,147.24 800,384.25 ; 900,147.24 900,384.25 ; 1000,147.24 1000,384.25 ; 1100,147.24 1100,384.25 ; 1200,147.24 1200,384.25
3D body: height 162.6, standoff -118.11, extent 787.4,-112.6 812.6,-87.4
3D body: height 162.6, standoff 137.4, extent 787.4,-112.6 812.6,384.25
3D body: height 162.6, standoff -118.11, extent 1187.4,-112.6 1212.6,-87.4
3D body: height 162.6, standoff 137.4, extent 1187.4,-112.6 1212.6,384.25
3D body: height 162.6, standoff -118.11, extent 1087.4,-112.6 1112.6,-87.4
3D body: height 162.6, standoff 137.4, extent 1087.4,-112.6 1112.6,384.25
3D body: height 162.6, standoff -118.11, extent 987.4,-112.6 1012.6,-87.4
3D body: height 162.6, standoff 137.4, extent 987.4,-112.6 1012.6,384.25
3D body: height 162.6, standoff -118.11, extent 887.4,-112.6 912.6,-87.4
3D body: height 162.6, standoff 137.4, extent 887.4,-112.6 912.6,384.25
3D body: height 162.6, standoff -118.11, extent 687.4,-112.6 712.6,-87.4
3D body: height 162.6, standoff 137.4, extent 687.4,-112.6 712.6,384.25
3D body: height 162.6, standoff -118.11, extent 587.4,-112.6 612.6,-87.4
3D body: height 162.6, standoff 137.4, extent 587.4,-112.6 612.6,384.25
3D body: height 162.6, standoff -118.11, extent 487.4,-112.6 512.6,-87.4
3D body: height 162.6, standoff 137.4, extent 487.4,-112.6 512.6,384.25
3D body: height 162.6, standoff -118.11, extent 387.4,-112.6 412.6,-87.4
3D body: height 162.6, standoff 137.4, extent 387.4,-112.6 412.6,384.25
3D body: height 162.6, standoff -118.11, extent 387.4,-112.6 412.6,-87.4
3D body: height 162.6, standoff 137.4, extent 387.4,-112.6 412.6,384.25
3D body: height 162.6, standoff -118.11, extent 287.4,-112.6 312.6,-87.4
3D body: height 162.6, standoff 137.4, extent 287.4,-112.6 312.6,384.25
3D body: height 162.6, standoff -118.11, extent 187.4,-112.6 212.6,-87.4
3D body: height 162.6, standoff 137.4, extent 187.4,-112.6 212.6,384.25
3D body: height 162.6, standoff -118.11, extent 87.4,-112.6 112.6,-87.4
3D body: height 162.6, standoff 137.4, extent 87.4,-112.6 112.6,384.25
3D body: height 162.6, standoff 137.4, extent -12.6,-112.6 12.6,384.25
3D body: height 162.6, standoff -118.11, extent -12.6,-112.6 12.6,-87.4
3D body: height 62.6, standoff 37.4, extent -12.6,-12.6 12.6,384.25
3D body: height 200, standoff 0, extent -50,47.24 1250,147.24
3D body: height 62.6, standoff -118.11, extent -12.6,-12.6 12.6,12.6
3D body: height 62.6, standoff -118.11, extent 87.4,-12.6 112.6,12.6
3D body: height 62.6, standoff 37.4, extent 87.4,-12.6 112.6,384.25
3D body: height 62.6, standoff -118.11, extent 187.4,-12.6 212.6,12.6
3D body: height 62.6, standoff 37.4, extent 187.4,-12.6 212.6,384.25
3D body: height 62.6, standoff -118.11, extent 287.4,-12.6 312.6,12.6
3D body: height 62.6, standoff 37.4, extent 287.4,-12.6 312.6,384.25
3D body: height 62.6, standoff -118.11, extent 387.4,-12.6 412.6,12.6
3D body: height 62.6, standoff 37.4, extent 387.4,-12.6 412.6,384.25
3D body: height 62.6, standoff -118.11, extent 487.4,-12.6 512.6,12.6
3D body: height 62.6, standoff 37.4, extent 487.4,-12.6 512.6,384.25
3D body: height 62.6, standoff -118.11, extent 587.4,-12.6 612.6,12.6
3D body: height 62.6, standoff 37.4, extent 587.4,-12.6 612.6,384.25
3D body: height 62.6, standoff -118.11, extent 687.4,-12.6 712.6,12.6
3D body: height 62.6, standoff 37.4, extent 687.4,-12.6 712.6,384.25
3D body: height 62.6, standoff -118.11, extent 787.4,-12.6 812.6,12.6
3D body: height 62.6, standoff 37.4, extent 787.4,-12.6 812.6,384.25
3D body: height 62.6, standoff -118.11, extent 887.4,-12.6 912.6,12.6
3D body: height 62.6, standoff 37.4, extent 887.4,-12.6 912.6,384.25
3D body: height 62.6, standoff -118.11, extent 987.4,-12.6 1012.6,12.6
3D body: height 62.6, standoff 37.4, extent 987.4,-12.6 1012.6,384.25
3D body: height 62.6, standoff -118.11, extent 1087.4,-12.6 1112.6,12.6
3D body: height 62.6, standoff 37.4, extent 1087.4,-12.6 1112.6,384.25
3D body: height 62.6, standoff -118.11, extent 1187.4,-12.6 1212.6,12.6
3D body: height 62.6, standoff 37.4, extent 1187.4,-12.6 1212.6,384.25

## PLD32S [mil]
pads (32):
  rect 70x70 hole 39.37: 1(0,0)
  round 70 hole 39.37: 2(0,100) 3(100,0) 4(100,100) 5(200,0) 6(200,100) 7(300,0) 8(300,100) 9(400,0) 10(400,100) 11(500,0) 12(500,100) 13(600,0) 14(600,100) 15(700,0) 16(700,100) 17(800,0) 18(800,100) 19(900,0) 20(900,100) 21(1000,0) 22(1000,100) 23(1100,0) 24(1100,100) 25(1200,0) 26(1200,100) 27(1300,0) 28(1300,100) 29(1400,0) 30(1400,100) 31(1500,0) 32(1500,100)
TopOverlay:
  lines w12: -60,150 -60,-60 50,-60 50,-50 ; -50,-50 -50,150 1550,150 1550,-50 -50,-50
3D body: height 100, standoff 0, extent -50,-50 1550,150
3D body: height 455, standoff -120, extent -14,-14 14,14
3D body: height 455, standoff -120, extent 86,-14 114,14
3D body: height 455, standoff -120, extent 186,-14 214,14
3D body: height 455, standoff -120, extent 286,-14 314,14
3D body: height 455, standoff -120, extent 386,-14 414,14
3D body: height 455, standoff -120, extent 486,-14 514,14
3D body: height 455, standoff -120, extent 586,-14 614,14
3D body: height 455, standoff -120, extent 686,-14 714,14
3D body: height 455, standoff -120, extent 786,-14 814,14
3D body: height 455, standoff -120, extent 886,-14 914,14
3D body: height 455, standoff -120, extent 986,-14 1014,14
3D body: height 455, standoff -120, extent 1086,-14 1114,14
3D body: height 455, standoff -120, extent 1186,-14 1214,14
3D body: height 455, standoff -120, extent 1286,-14 1314,14
3D body: height 455, standoff -120, extent 1386,-14 1414,14
3D body: height 455, standoff -120, extent 1486,-14 1514,14
3D body: height 455, standoff -120, extent 1486,86 1514,114
3D body: height 455, standoff -120, extent 1386,86 1414,114
3D body: height 455, standoff -120, extent 1286,86 1314,114
3D body: height 455, standoff -120, extent 1186,86 1214,114
3D body: height 455, standoff -120, extent 1086,86 1114,114
3D body: height 455, standoff -120, extent 986,86 1014,114
3D body: height 455, standoff -120, extent 886,86 914,114
3D body: height 455, standoff -120, extent 786,86 814,114
3D body: height 455, standoff -120, extent 686,86 714,114
3D body: height 455, standoff -120, extent 586,86 614,114
3D body: height 455, standoff -120, extent 486,86 514,114
3D body: height 455, standoff -120, extent 386,86 414,114
3D body: height 455, standoff -120, extent 286,86 314,114
3D body: height 455, standoff -120, extent 186,86 214,114
3D body: height 455, standoff -120, extent 86,86 114,114
3D body: height 455, standoff -120, extent -14,86 14,114